# Altium footprint library Resistor_SMD.PcbLib: 49 footprints (part 1 of 4)
Each footprint in its own frame and in the unit in brackets; x right, y up, seen from the top. Pads: shape width x height; smd on the part's side, far side on the other; paste and mask are expansions set on the pad; w line width, h text height; cw(c..) or ccw(c..) is an arc to the next point about the centre after c.
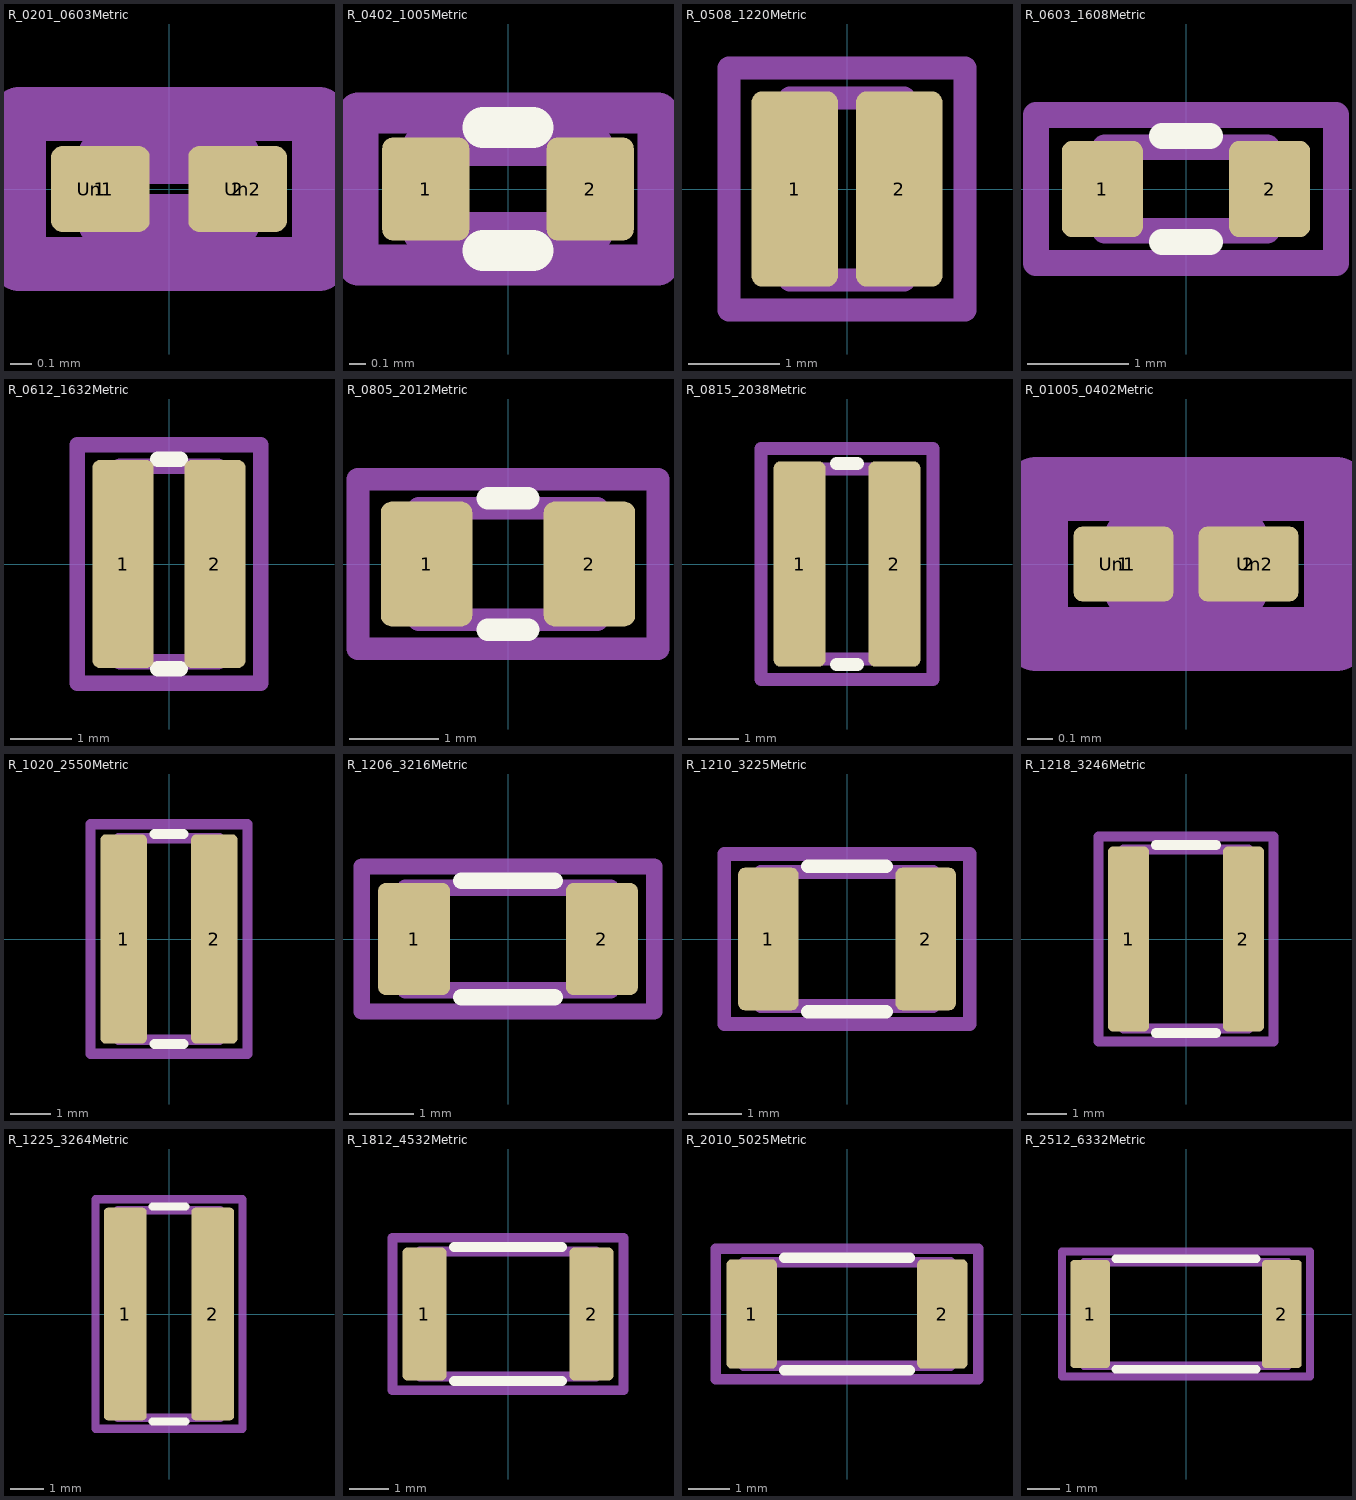
[diagram p0: the footprints below, top view; thin cyan lines are the x and y axes]

## R_0201_0603Metric [mm]
pads (4):
  rrect25% 0.46x0.4 smd: 1(-0.32,0) 2(0.32,0)
  rrect25% 0.318x0.36 on Top Paste: Un1(-0.345,0) Un2(0.345,0)
Top Assembly:
  lines w0.254: -0.3,-0.15 0.3,-0.15 0.3,0.15 -0.3,0.15 -0.3,-0.15
  text "'.Designator'" at -1.014,0.467 h0.25
Top Courtyard:
  lines w0.254: -0.7,-0.35 0.7,-0.35 0.7,0.35 -0.7,0.35 -0.7,-0.35
Top Designator:
  text ".Designator" at -1.126,-0.113 h0.5
3D body "R_0201_0603Metric.step": height 0.23, standoff 0, extent -0.3,-0.15 0.3,0.15

## R_0402_1005Metric [mm]
pads (2):
  rrect25% 0.54x0.64 smd: 1(-0.51,0) 2(0.51,0)
F.SilkS:
  lines w0.254: -0.154,-0.38 0.154,-0.38 ; -0.154,0.38 0.154,0.38
Top Assembly:
  lines w0.254: -0.525,-0.27 -0.525,0.27 0.525,0.27 0.525,-0.27 -0.525,-0.27
  text "'.Designator'" at -0.63,-0.059 h0.26
Top Courtyard:
  lines w0.254: -0.93,-0.47 -0.93,0.47 0.93,0.47 0.93,-0.47 -0.93,-0.47
Top Designator:
  text ".Designator" at -1.144,-0.113 h0.5
3D body "R_0402_1005Metric.step": height 0.35, standoff 0, extent -0.5,-0.25 0.5,0.25

## R_0508_1220Metric [mm]
pads (2):
  rrect25% 0.95x2.15 smd: 1(-0.575,0) 2(0.575,0)
Top Assembly:
  lines w0.254: -0.625,-1 -0.625,1 0.625,1 0.625,-1 -0.625,-1
  text "'.Designator'" at -0.744,-0.07 h0.31
Top Courtyard:
  lines w0.254: -1.3,-1.33 -1.3,1.33 1.3,1.33 1.3,-1.33 -1.3,-1.33
Top Designator:
  text ".Designator" at -1.126,-0.113 h0.5

## R_0603_1608Metric [mm]
pads (2):
  rrect25% 0.8x0.95 smd: 1(-0.825,0) 2(0.825,0)
F.SilkS:
  lines w0.254: -0.237,-0.523 0.237,-0.523 ; -0.237,0.523 0.237,0.523
Top Assembly:
  lines w0.254: -0.8,-0.413 0.8,-0.413 0.8,0.413 -0.8,0.413 -0.8,-0.413
  text "'.Designator'" at -0.966,-0.091 h0.4
Top Courtyard:
  lines w0.254: -1.48,-0.73 1.48,-0.73 1.48,0.73 -1.48,0.73 -1.48,-0.73
Top Designator:
  text ".Designator" at -1.162,-0.113 h0.5
3D body "R_0603_1608Metric.step": height 0.45, standoff 0, extent -0.8,-0.4 0.8,0.4

## R_0612_1632Metric [mm]
pads (2):
  rrect25% 1x3.4 smd: 1(-0.75,0) 2(0.75,0)
F.SilkS:
  lines w0.254: -0.183,-1.71 0.183,-1.71 ; -0.183,1.71 0.183,1.71
Top Assembly:
  lines w0.254: -0.8,-1.6 -0.8,1.6 0.8,1.6 0.8,-1.6 -0.8,-1.6
  text "'.Designator'" at -0.966,-0.091 h0.4
Top Courtyard:
  lines w0.254: -1.5,-1.95 -1.5,1.95 1.5,1.95 1.5,-1.95 -1.5,-1.95
Top Designator:
  text ".Designator" at -1.126,-0.113 h0.5
3D body "R_0612_1632Metric.step": height 0.45, standoff 0, extent -0.8,-1.6 0.8,1.6

## R_0805_2012Metric [mm]
pads (2):
  rrect24% 1.025x1.4 smd: 1(-0.913,0) 2(0.913,0)
F.SilkS:
  lines w0.254: -0.227,-0.735 0.227,-0.735 ; -0.227,0.735 0.227,0.735
Top Assembly:
  lines w0.254: -1,-0.625 -1,0.625 1,0.625 1,-0.625 -1,-0.625
  text "'.Designator'" at -1.209,-0.113 h0.5
Top Courtyard:
  lines w0.254: -1.68,-0.95 -1.68,0.95 1.68,0.95 1.68,-0.95 -1.68,-0.95
Top Designator:
  text ".Designator" at -1.126,-0.113 h0.5
3D body "R_0805_2012Metric.step": height 0.45, standoff 0, extent -1,-0.6 1,0.6

## R_0815_2038Metric [mm]
pads (2):
  rrect24% 1.025x4.05 smd: 1(-0.937,0) 2(0.937,0)
F.SilkS:
  lines w0.254: -0.21,-1.985 0.21,-1.985 ; -0.21,1.985 0.21,1.985
Top Assembly:
  lines w0.254: -1,-1.875 1,-1.875 1,1.875 -1,1.875 -1,-1.875
  text "'.Designator'" at -2.028,-0.425 h0.5
Top Courtyard:
  lines w0.254: -1.7,-2.28 1.7,-2.28 1.7,2.28 -1.7,2.28 -1.7,-2.28
Top Designator:
  text ".Designator" at -7.698,-0.508 h1.52

## R_01005_0402Metric [mm]
pads (4):
  rrect25% 0.4x0.3 smd: 1(-0.25,0) 2(0.25,0)
  rrect25% 0.27x0.27 on Top Paste: Un1(-0.275,0) Un2(0.275,0)
Top Assembly:
  lines w0.254: -0.2,-0.1 0.2,-0.1 0.2,0.1 -0.2,0.1 -0.2,-0.1
  text "'.Designator'" at -1.014,0.407 h0.25
Top Courtyard:
  lines w0.254: -0.6,-0.3 0.6,-0.3 0.6,0.3 -0.6,0.3 -0.6,-0.3
Top Designator:
  text ".Designator" at -7.658,-0.367 h1.52

## R_1020_2550Metric [mm]
pads (2):
  rrect22% 1.15x5.2 smd: 1(-1.125,0) 2(1.125,0)
F.SilkS:
  lines w0.254: -0.361,-2.61 0.361,-2.61 ; -0.361,2.61 0.361,2.61
Top Assembly:
  lines w0.254: -1.25,-2.5 1.25,-2.5 1.25,2.5 -1.25,2.5 -1.25,-2.5
  text "'.Designator'" at -2.506,-0.518 h0.62
Top Courtyard:
  lines w0.254: -1.95,-2.85 1.95,-2.85 1.95,2.85 -1.95,2.85 -1.95,-2.85
Top Designator:
  text ".Designator" at -7.708,-0.508 h1.52

## R_1206_3216Metric [mm]
pads (2):
  rrect22% 1.125x1.75 smd: 1(-1.462,0) 2(1.462,0)
F.SilkS:
  lines w0.254: -0.727,-0.91 0.727,-0.91 ; -0.727,0.91 0.727,0.91
Top Assembly:
  lines w0.254: -1.6,-0.8 1.6,-0.8 1.6,0.8 -1.6,0.8 -1.6,-0.8
  text "'.Designator'" at -3.237,-0.672 h0.8
Top Courtyard:
  lines w0.254: -2.28,-1.13 2.28,-1.13 2.28,1.13 -2.28,1.13 -2.28,-1.13
Top Designator:
  text ".Designator" at -7.738,-0.508 h1.52

## R_1210_3225Metric [mm]
pads (2):
  rrect22% 1.125x2.65 smd: 1(-1.462,0) 2(1.462,0)
F.SilkS:
  lines w0.254: -0.724,-1.355 0.724,-1.355 ; -0.724,1.355 0.724,1.355
Top Assembly:
  lines w0.254: -1.6,-1.245 1.6,-1.245 1.6,1.245 -1.6,1.245 -1.6,-1.245
  text "'.Designator'" at -3.237,-0.672 h0.8
Top Courtyard:
  lines w0.254: -2.28,-1.58 2.28,-1.58 2.28,1.58 -2.28,1.58 -2.28,-1.58
Top Designator:
  text ".Designator" at -7.738,-0.508 h1.52

## R_1218_3246Metric [mm]
pads (2):
  rrect24% 1.05x4.75 smd: 1(-1.475,0) 2(1.475,0)
F.SilkS:
  lines w0.254: -0.777,-2.41 0.777,-2.41 ; -0.777,2.41 0.777,2.41
Top Assembly:
  lines w0.254: -1.6,-2.3 1.6,-2.3 1.6,2.3 -1.6,2.3 -1.6,-2.3
  text "'.Designator'" at -3.237,-0.672 h0.8
Top Courtyard:
  lines w0.254: -2.25,-2.63 2.25,-2.63 2.25,2.63 -2.25,2.63 -2.25,-2.63
Top Designator:
  text ".Designator" at -7.738,-0.508 h1.52

## R_1225_3264Metric [mm]
pads (2):
  rrect19% 1.3x6.45 smd: 1(-1.325,0) 2(1.325,0)
F.SilkS:
  lines w0.254: -0.502,-3.26 0.502,-3.26 ; -0.502,3.26 0.502,3.26
Top Assembly:
  lines w0.254: -1.55,-3.15 1.55,-3.15 1.55,3.15 -1.55,3.15 -1.55,-3.15
  text "'.Designator'" at -3.159,-0.658 h0.78
Top Courtyard:
  lines w0.254: -2.23,-3.48 2.23,-3.48 2.23,3.48 -2.23,3.48 -2.23,-3.48
Top Designator:
  text ".Designator" at -7.738,-0.508 h1.52

## R_1812_4532Metric [mm]
pads (2):
  rrect22% 1.125x3.4 smd: 1(-2.137,0) 2(2.137,0)
F.SilkS:
  lines w0.254: -1.386,-1.71 1.386,-1.71 ; -1.386,1.71 1.386,1.71
Top Assembly:
  lines w0.254: -2.25,-1.6 2.25,-1.6 2.25,1.6 -2.25,1.6 -2.25,-1.6
  text "'.Designator'" at -4.047,-0.84 h1
Top Courtyard:
  lines w0.254: -2.95,-1.95 2.95,-1.95 2.95,1.95 -2.95,1.95 -2.95,-1.95
Top Designator:
  text ".Designator" at -7.768,-0.508 h1.52

## R_2010_5025Metric [mm]
pads (2):
  rrect20% 1.225x2.65 smd: 1(-2.312,0) 2(2.312,0)
F.SilkS:
  lines w0.254: -1.527,-1.36 1.527,-1.36 ; -1.527,1.36 1.527,1.36
Top Assembly:
  lines w0.254: -2.5,-1.25 2.5,-1.25 2.5,1.25 -2.5,1.25 -2.5,-1.25
  text "'.Designator'" at -4.047,-0.84 h1
Top Courtyard:
  lines w0.254: -3.18,-1.58 3.18,-1.58 3.18,1.58 -3.18,1.58 -3.18,-1.58
Top Designator:
  text ".Designator" at -7.768,-0.508 h1.52

## R_2512_6332Metric [mm]
pads (2):
  rrect20% 1.225x3.35 smd: 1(-2.963,0) 2(2.963,0)
F.SilkS:
  lines w0.254: -2.177,-1.71 2.177,-1.71 ; -2.177,1.71 2.177,1.71
Top Assembly:
  lines w0.254: -3.15,-1.6 3.15,-1.6 3.15,1.6 -3.15,1.6 -3.15,-1.6
  text "'.Designator'" at -4.047,-0.84 h1
Top Courtyard:
  lines w0.254: -3.83,-1.93 3.83,-1.93 3.83,1.93 -3.83,1.93 -3.83,-1.93
Top Designator:
  text ".Designator" at -7.737,-0.508 h1.52